# Altium footprint library REV041.PcbLib: 2 footprints
Each footprint in its own frame and in the unit in brackets; x right, y up, seen from the top. Pads: shape width x height; smd on the part's side, far side on the other; paste and mask are expansions set on the pad; w line width, h text height; cw(c..) or ccw(c..) is an arc to the next point about the centre after c.
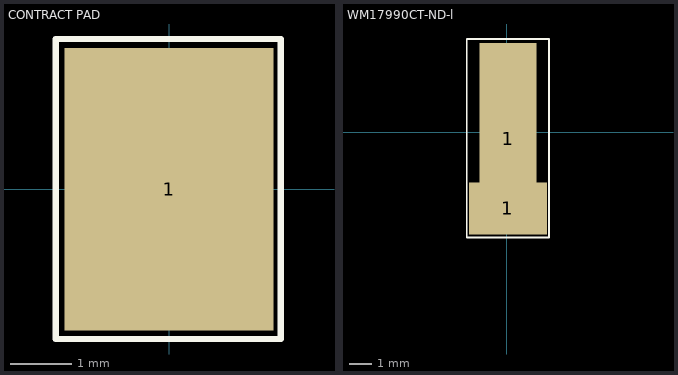
[diagram p0: the footprints below, top view; thin cyan lines are the x and y axes]

## CONTRACT PAD [mm]
pads (1):
  rect 3.4x4.6 smd: 1(0,0)
Top Overlay:
  lines w0.102: -1.845,-2.439 1.82,-2.439 1.82,2.445 -1.845,2.445 -1.845,-2.439

## WM17990CT-ND-l [mm]
height 2.9
pads (2):
  rect 3.4x2.3 smd mask+0.1: 1(0.062,-3.339)
  rect 2.5x8.4 smd mask+0.1: 1(0.062,-0.278)
Top Overlay:
  lines w0.076: -1.749,-4.611 -1.749,4.093 1.855,4.093 1.855,-4.611 -1.749,-4.611
Top Solder:
  pour cut-out: -2.5,-9.063
3D body "2038638103.stp": height 2.9, standoff -0.1, extent -1.438,-4.059 1.562,3.941